# EAGLE library part TI-MSP430FR2433IRGE (library EagleLibrary)
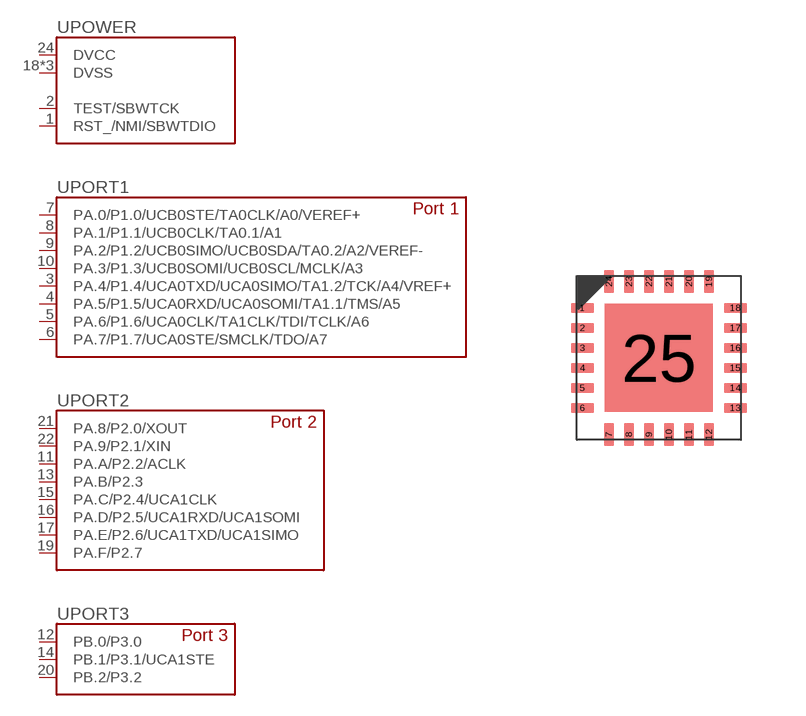
[diagram p53: symbol with the pads of TI-MSP430FR2433IRGE; footprint TI-MSP430FR2433IRGE]

Designator prefix U; gates POWER=TI-MSP430FR2433IRGE-POWER PORT1=TI-MSP430FR2433IRGE-PORT1 PORT2=TI-MSP430FR2433IRGE-PORT2 PORT3=TI-MSP430FR2433IRGE-PORT3

## TI-MSP430FR2433IRGE (MFG: Texas Instruments; PN: MSP430FR2433IRGE)  [TI-MSP430FR2433IRGE]
1  POWER:RST_/NMI/SBWTDIO
2  POWER:TEST/SBWTCK
3  PORT1:PA.4/P1.4/UCA0TXD/UCA0SIMO/TA1.2/TCK/A4/VREF+
4  PORT1:PA.5/P1.5/UCA0RXD/UCA0SOMI/TA1.1/TMS/A5
5  PORT1:PA.6/P1.6/UCA0CLK/TA1CLK/TDI/TCLK/A6
6  PORT1:PA.7/P1.7/UCA0STE/SMCLK/TDO/A7
7  PORT1:PA.0/P1.0/UCB0STE/TA0CLK/A0/VEREF+
8  PORT1:PA.1/P1.1/UCB0CLK/TA0.1/A1
9  PORT1:PA.2/P1.2/UCB0SIMO/UCB0SDA/TA0.2/A2/VEREF-
10  PORT1:PA.3/P1.3/UCB0SOMI/UCB0SCL/MCLK/A3
11  PORT2:PA.A/P2.2/ACLK
12  PORT3:PB.0/P3.0
13  PORT2:PA.B/P2.3
14  PORT3:PB.1/P3.1/UCA1STE
15  PORT2:PA.C/P2.4/UCA1CLK
16  PORT2:PA.D/P2.5/UCA1RXD/UCA1SOMI
17  PORT2:PA.E/P2.6/UCA1TXD/UCA1SIMO
18  POWER:DVSS
19  PORT2:PA.F/P2.7
20  PORT3:PB.2/P3.2
21  PORT2:PA.8/P2.0/XOUT
22  PORT2:PA.9/P2.1/XIN
23  POWER:DVSS
24  POWER:DVCC
25  POWER:DVSS

## Footprint TI-MSP430FR2433IRGE (pad centres in mm)
20-QFN, 0.50 mm pitch, 4.50 X 3.50 X 1.00 mm body, 3.05 X 2.05 mm thermal pad 20-pin QFN package with 0.50 mm pitch with body size 4.50 X 3.50 X 1.00 mm and thermal pad size 3.05 X 2.05 mm
smd 0.58 x 0.24: 1 -1.913,1.25; 2 -1.913,0.75; 3 -1.913,0.25; 4 -1.913,-0.25; 5 -1.913,-0.75; 6 -1.913,-1.25; 13 1.913,-1.25; 14 1.913,-0.75; 15 1.913,-0.25; 16 1.913,0.25; 17 1.913,0.75; 18 1.913,1.25
smd 0.24 x 0.58: 7 -1.25,-1.913; 8 -0.75,-1.913; 9 -0.25,-1.913; 10 0.25,-1.913; 11 0.75,-1.913; 12 1.25,-1.913; 19 1.25,1.913; 20 0.75,1.913; 21 0.25,1.913; 22 -0.25,1.913; 23 -0.75,1.913; 24 -1.25,1.913
smd 2.7 x 2.7: 25 0,0